# Altium footprint library ECS250836CKMTR3.PcbLib: 1 footprints
Each footprint in its own frame and in the unit in brackets; x right, y up, seen from the top. Pads: shape width x height; smd on the part's side, far side on the other; paste and mask are expansions set on the pad; w line width, h text height; cw(c..) or ccw(c..) is an arc to the next point about the centre after c.
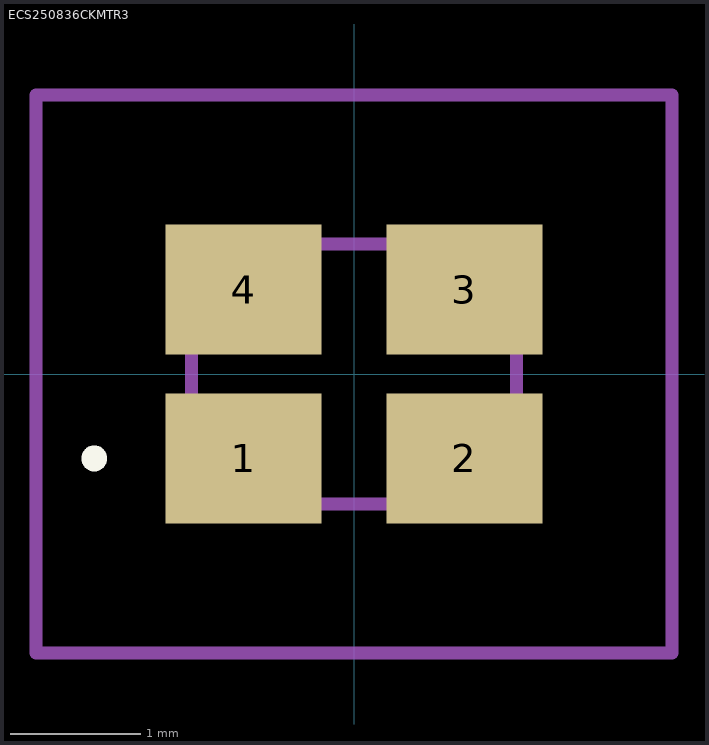
[diagram p0: the footprint, top view; thin cyan lines are the x and y axes]

## ECS250836CKMTR3 [mm]
pads (4):
  rect 1.2x1 smd: 1(-0.85,-0.65) 2(0.85,-0.65) 3(0.85,0.65) 4(-0.85,0.65)
Top Overlay:
  lines w0.1: -2,-0.7 cw(c-2,-0.65) -2,-0.6 ; -2,-0.7 -2,-0.7 ; -2,-0.7 ccw(c-2,-0.65) -2,-0.6 ; -2,-0.6 -2,-0.6
Mechanical 15:
  lines w0.1: -1.25,-1 1.25,-1 1.25,1 -1.25,1 -1.25,-1
Mechanical 20:
  lines w0.1: -2.45,-2.15 2.45,-2.15 2.45,2.15 -2.45,2.15 -2.45,-2.15